# Altium schematic symbol library D.SchLib: 18 symbols
Pins are listed as number, name and electrical type; pins without a type are passive.

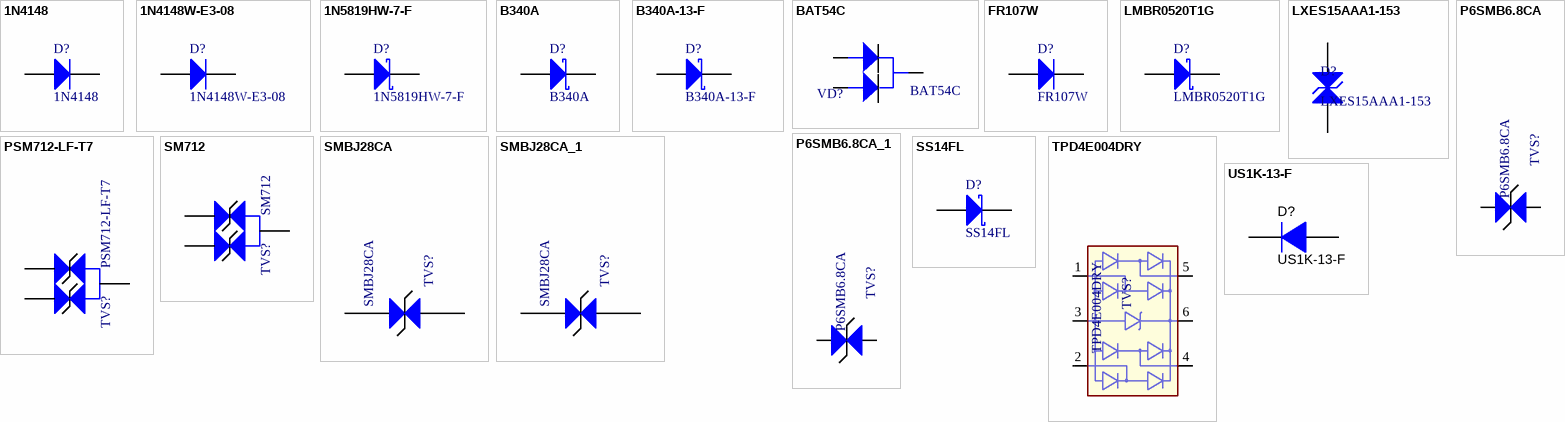
[diagram p0: symbols 1N4148 to US1K-13-F]

## 1N4148
designator D?
反向恢复时间（trr） 4ns / 直流反向耐压（Vr） 100V / 平均整流电流（Io） 150mA / 正向压降（Vf） 1.25V @ 150mA; Manufacturer: CJ（江苏长电/长晶）; Code: 1N4148W T4; CompType: 开关二极管; A_Code: -; A_Manufacturer: -; DistributorCode: C2099; Package: SOD-123; A_ComType: -
footprint SOD-123
pins: 1 A, 2 K

## 1N4148W-E3-08
designator D?
反向恢复时间（trr） 4ns / 直流反向耐压（Vr） 75V / 平均整流电流（Io） 150mA / 正向压降（Vf） 1.2V @ 100mA; Manufacturer: VISHAY(威世); CompType: 开关二极管; A_Code: -; A_Manufacturer: -; Code: 1N4148W-E3-08; DistributorCode: C241939; Package: SOD-123; A_ComType: -
footprint SOD-123
pins: 1 A, 2 K

## 1N5819HW-7-F
designator D?
直流反向耐压（Vr） 40V / 平均整流电流（Io） 1A / 正向压降（Vf） 450mV @ 1A; Manufacturer: DIODES(美台); CompType: 肖特基二极管; A_Code: -; A_Manufacturer: -; Code: 1N5819HW-7-F; DistributorCode: C82544; Package: SOD-123; A_ComType: -
footprint SOD-123
pins: 1 A, 2 K

## B340A
designator D?
直流反向耐压（Vr） 40V / 平均整流电流（Io） 3A / 正向压降（Vf） 550mV @ 3A; Manufacturer: MDD; CompType: 肖特基二极管; Code: B340A; DistributorCode: C64982; Package: SMA; A_Code: -; A_ComType: -; A_Manufacturer: -
footprint SMA
pins: 1 A, 2 K

## B340A-13-F
designator D?
直流反向耐压（Vr） 40V / 平均整流电流（Io） 3A / 正向压降（Vf） 550mV @ 3A; Manufacturer: DIODES(美台); CompType: 肖特基二极管; Code: B340A-13-F; DistributorCode: C85098; Package: SMA; A_Code: -; A_ComType: -; A_Manufacturer: -
footprint SMA(DO-214AC)_S2
pins: 1 A, 2 K

## BAT54C
designator VD?
共阴极，IF=0.2A,VRRM=30V,VF=0.24V@0.1mA,IR=2uA@25V,trr=5ns,SOT23-3,-55℃～150℃; Manufacturer: Nexperia(安世); Code: BAT54C,215; CompType: 肖特基二极管; DistributorCode: C37704; Package: SOT-23-3; A_Code: -; A_ComType: -; A_Manufacturer: -
footprint SOT-23(SOT-23-3)
pins: 1 A1, 2 A2, 3 K

## FR107W
designator D?
反向恢复时间（trr） 500ns / 直流反向耐压（Vr） 1kV / 平均整流电流（Io） 1A / 正向压降（Vf） 1.3V @ 1A /; Manufacturer: SHIKUES(时科); CompType: 快恢复二极管; A_Code: -; A_Manufacturer: -; Code: FR107W; DistributorCode: C122857; Package: SOD-123F; A_ComType: -
footprint SOD-123
pins: 1 A, 2 K

## LMBR0520T1G
designator D?
肖特基二极管 / 直流反向耐压（Vr） 20V / 平均整流电流（Io） 500mA / 正向压降（Vf） 385mV @ 500mA; Manufacturer: LRC(乐山无线电); A_Code: -; A_Manufacturer: -; Code: LMBR0520T1G; DistributorCode: C78289; Package: SOD-123; CompType: 肖特基二极管; A_ComType: -
footprint SOD-123
pins: 1 A, 2 K

## LXES15AAA1-153
designator D?
footprint S0402L
pins: 1 A, 2 K

## P6SMB6.8CA
designator TVS?
极性 Bidirectional / 峰值脉冲电流（10/1000us） 58.1A / 箝位电压 10.5V / 击穿电压（最小值） 6.45V / 反向关断电压（典型值） 5.8V; Manufacturer: Brightking(台湾君耀); CompType: TVS二极管; Code: P6SMB6.8CA; DistributorCode: C78395; Package: SMB; A_Code: -; A_ComType: -; A_Manufacturer: -
footprint SMB
pins: 1, 2

## P6SMB6.8CA_1
designator TVS?, comment P6SMB6.8CA
极性 Bidirectional / 峰值脉冲电流（10/1000us） 58.1A / 箝位电压 10.5V / 击穿电压（最小值） 6.45V / 反向关断电压（典型值） 5.8V; Manufacturer: Littelfuse(美国力特); CompType: TVS二极管; Code: P6SMB6.8CA; DistributorCode: C80339; Package: SMB; A_Code: -; A_ComType: -; A_Manufacturer: -
footprint SMB
pins: 1, 2

## PSM712-LF-T7
designator TVS?
反向关断电压（典型值） 12V,7V / 击穿电压（最小值） 13.3V,7.5V / 极性 - / 箝位电压 20V,10V / 峰值脉冲电流（10/1000us） 5A (8/20us); Manufacturer: PROTEK; CompType: TVS二极管; Code: PSM712-LF-T7; DistributorCode: C32677; Package: SOT-23; A_Code: -; A_ComType: -; A_Manufacturer: -
footprint SOT-23(SOT-23-3)
pins: 1, 2, 3

## SM712
designator TVS?
反向关断电压（典型值） 12V,7V / 击穿电压（最小值） 13.3V,7.5V / 极性 - / 箝位电压 20V,10V / 峰值脉冲电流（10/1000us） 5A (8/20us); Manufacturer: MDD; CompType: TVS二极管; Code: SM712; DistributorCode: C502564; Package: SOT-23; A_Code: -; A_ComType: -; A_Manufacturer: -
footprint SOT-23
pins: 1, 2, 3

## SMBJ28CA
designator TVS?
极性 Bidirectional / 峰值脉冲电流（10/1000us） 13.3A / 箝位电压 45.4V / 击穿电压（最小值） 31.1V / 反向关断电压（典型值） 28V; Manufacturer: Brightking(台湾君耀); CompType: TVS二极管; Code: SMBJ28CA; DistributorCode: C78417; Package: SMB; A_Code: -; A_ComType: -; A_Manufacturer: -
footprint SMB_L4.6-W3.6-LS5.3-BI
pins: 1, 2

## SMBJ28CA_1
designator TVS?, comment SMBJ28CA
极性 Bidirectional / 峰值脉冲电流（10/1000us） 13.3A / 箝位电压 45.4V / 击穿电压（最小值） 31.1V / 反向关断电压（典型值） 28V; Manufacturer: Littelfuse(美国力特); CompType: TVS二极管; Code: SMBJ28CA; DistributorCode: C151259; Package: SMB; A_Code: -; A_ComType: -; A_Manufacturer: -
footprint SMB_L4.6-W3.6-LS5.3-BI
pins: 1, 2

## SS14FL
designator D?
直流反向耐压（Vr） 40V / 平均整流电流（Io） 1A / 正向压降（Vf） 450mV @ 1A; Manufacturer: SHIKUES(时科); CompType: 肖特基二极管; Code: SS14FL; DistributorCode: C111580; Package: SMA; A_Code: -; A_ComType: -; A_Manufacturer: -
footprint SMA(DO-214AC)_S2
pins: 1 A, 2 K

## TPD4E004DRY
designator TVS?
商品目录 TVS二极管 / 极性 Unidirectional / 峰值脉冲电流（10/1000us） - / 箝位电压 - / 击穿电压（最小值） 6V / 反向关断电压（典型值） 5.5V (Max); Manufacturer: TI(德州仪器); Code: TPD4E004DRYR; CompType: TVS二极管; DistributorCode: C97503; Package: SON-6; A_Code: -; A_ComType: -; A_Manufacturer: -
footprint SON50P100X145X60-6B2N
pins: 1, 2, 3, 4, 5, 6

## US1K-13-F
designator D?
Diode, Fast Rectifier, 800 V, 1 A, SMA; Manufacturer: Diodes Inc.; U/M: EA; Vf_V: 1.7; Value: 800V; Value1: 1A; Value2: 1.7V; Io_A: 1; Vr_V: 800; TJmax_C: 150; AEC Category: Q101; SymbolVersion: 2008-12-08; PartNumber: US1K-13-F; PackageReference: SMA; CompType: Diode; MountType: SMT; Type: Fast Rectifier; RoHS: Y; Published: 2008-06-26; Publisher: Texas Instruments; LatestRevisionDate: 2015-10-30; ComponentLink1Description: Datasheet link; ComponentLink1URL: http://diodes.com/datasheets/ds16008.pdf; Supplier 1: Digi-Key; Supplier Part Number 1: US1K-FDICT-ND; Supplier 2: Mouser; Supplier Part Number 2: 621-US1K-F; Supplier 3: Newark; Supplier Part Number 3: 12T2263; AEC Qualified: ?
signal-integrity model Diode
footprint SMA
pins: 1 K, 2 A